# Altium footprint library DPAdapter.PcbLib: 4 footprints
Each footprint in its own frame and in the unit in brackets; x right, y up, seen from the top. Pads: shape width x height; smd on the part's side, far side on the other; paste and mask are expansions set on the pad; w line width, h text height; cw(c..) or ccw(c..) is an arc to the next point about the centre after c.
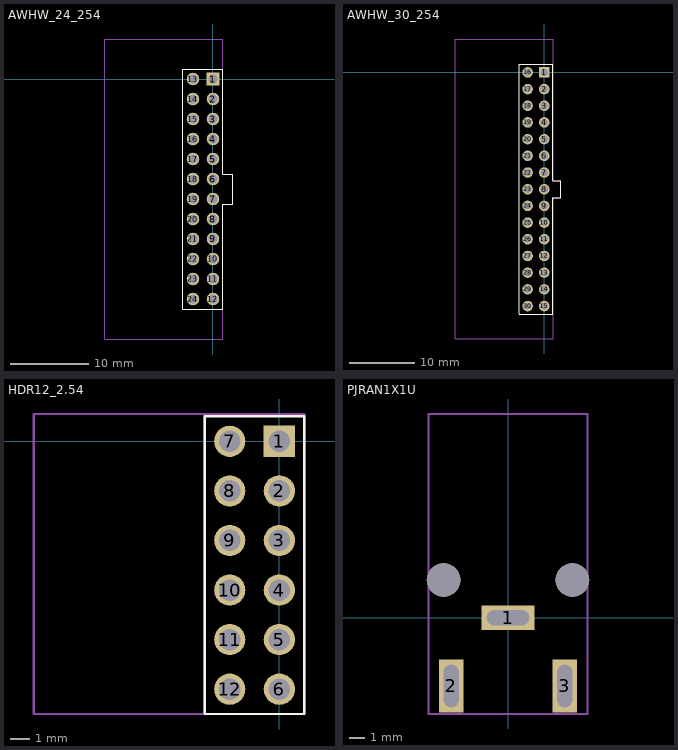
[diagram p0: the footprints below, top view; thin cyan lines are the x and y axes]

## AWHW_24_254 [mm]
pads (24):
  rect 1.6x1.6 hole 1.1: 1(0,0)
  round 1.6 hole 1.1: 2(0,-2.54) 3(0,-5.08) 4(0,-7.62) 5(0,-10.16) 6(0,-12.7) 7(0,-15.24) 8(0,-17.78) 9(0,-20.32) 10(0,-22.86) 11(0,-25.4) 12(0,-27.94) 13(-2.54,0) 14(-2.54,-2.54) 15(-2.54,-5.08) 16(-2.54,-7.62) 17(-2.54,-10.16) 18(-2.54,-12.7) 19(-2.54,-15.24) 20(-2.54,-17.78) 21(-2.54,-20.32) 22(-2.54,-22.86) 23(-2.54,-25.4) 24(-2.54,-27.94)
Top Overlay:
  lines w0.127: -3.81,-29.21 1.27,-29.21 1.27,-15.875 2.54,-15.875 2.54,-12.065 1.27,-12.065 1.27,1.27 -3.81,1.27 -3.81,-29.21
Assembly:
  lines w0.127: -13.716,-33.02 1.27,-33.02 1.27,-29.21 1.27,-15.875 2.54,-15.875 2.54,-12.065 1.27,-12.065 1.27,5.08 -13.716,5.08 -13.716,-33.02
  text "'.Designator'" at -9.779,-14.605 h1
3D body "header_awhw24a-0502-t.stp": height 8.96, standoff -3.14, extent -13.626,-33.02 0.354,5.08

## AWHW_30_254 [mm]
pads (30):
  rect 1.6x1.6 hole 1.1: 1(0,0)
  round 1.6 hole 1.1: 2(0,-2.54) 3(0,-5.08) 4(0,-7.62) 5(0,-10.16) 6(0,-12.7) 7(0,-15.24) 8(0,-17.78) 9(0,-20.32) 10(0,-22.86) 11(0,-25.4) 12(0,-27.94) 13(0,-30.48) 14(0,-33.02) 15(0,-35.56) 16(-2.54,0) 17(-2.54,-2.54) 18(-2.54,-5.08) 19(-2.54,-7.62) 20(-2.54,-10.16) 21(-2.54,-12.7) 22(-2.54,-15.24) 23(-2.54,-17.78) 24(-2.54,-20.32) 25(-2.54,-22.86) 26(-2.54,-25.4) 27(-2.54,-27.94) 28(-2.54,-30.48) 29(-2.54,-33.02) 30(-2.54,-35.56)
Top Overlay:
  lines w0.127: -3.81,-36.83 -3.81,1.27 1.27,1.27 1.27,-16.51 2.54,-16.51 2.54,-19.05 1.27,-19.05 1.27,-36.83 -3.81,-36.83
Assembly:
  lines w0.127: -13.589,-40.576 -13.589,5.08 1.397,5.08 1.397,-16.51 2.54,-16.51 2.54,-19.05 1.397,-19.05 1.397,-33.02 1.397,-40.576 -13.589,-40.576
  text "'.Designator'" at -10.414,-19.177 h1
3D body "header_awhw30a-0502-t.stp": height 8.81, standoff -3.29, extent -13.651,-40.64 0.329,5.08

## HDR12_2.54 [mm]
pads (12):
  rect 1.6x1.6 hole 1.1: 1(0,0)
  round 1.6 hole 1.1: 2(0,-2.54) 3(0,-5.08) 4(0,-7.62) 5(0,-10.16) 6(0,-12.7) 7(-2.54,0) 8(-2.54,-2.54) 9(-2.54,-5.08) 10(-2.54,-7.62) 11(-2.54,-10.16) 12(-2.54,-12.7)
Top Overlay:
  lines w0.127: -3.81,-13.97 1.27,-13.97 1.27,1.27 -3.81,1.27 -3.81,-13.97
Assembly:
  lines w0.127: -3.81,-13.97 -3.81,1.397 ; -12.573,-13.97 1.27,-13.97 1.27,1.397 -12.573,1.397 -12.573,-13.97
  text "'.Designator'" at -9.525,-7.366 h1
3D body "PH2RA-12-UA.STEP": height 5.01, standoff -2.99, extent -12.506,-13.843 0.254,1.397

## PJRAN1X1U [mm]
pads (5):
  rect 3.5x1.6 hole 1 slot 2.8 at 0 deg: 1(0,0)
  rect 1.6x3.5 hole 1 slot 2.8 at 90 deg: 2(-3.75,-4.5) 3(3.75,-4.5)
  round 2.2 hole 2.2 unplated: ""(-4.25,2.5) ""(4.25,2.5)
Assembly:
  lines w0.127: -5.258,-6.35 5.258,-6.35 5.258,13.462 -5.258,13.462 -5.258,-6.35
  text "'.Designator'" at -2.159,2.413 h1
3D body "PJRAN1X1U04X--3DModel-STEP-56544.STEP": height 11.52, standoff -5.5, extent -5.004,-6.06 5.004,13.447